# EAGLE library part 4840417 (library ampex)
MM1200 - Search-To-Cue / Tachometer
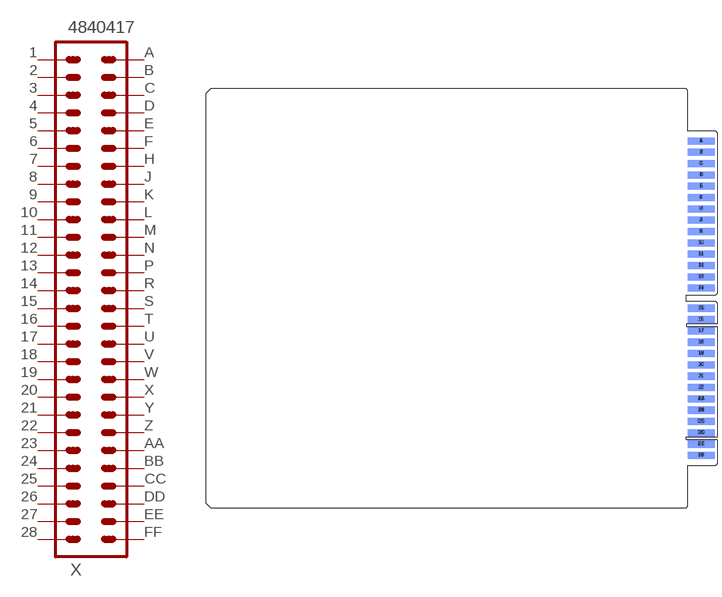
[diagram p17: symbol with the pads of 4840417; footprint 4840417]

Designator prefix X

## 4840417  [4840417]
1  1  pas
2  2  pas
3  3  pas
4  4  pas
5  5  pas
6  6  pas
7  7  pas
8  8  pas
9  9  pas
10  10  pas
11  11  pas
12  12  pas
13  13  pas
14  14  pas
15  15  pas
16  16  pas
17  17  pas
18  18  pas
19  19  pas
20  20  pas
21  21  pas
22  22  pas
23  23  pas
24  24  pas
25  25  pas
26  26  pas
27  27  pas
28  28  pas
A  A  pas
AA  AA  pas
B  B  pas
BB  BB  pas
C  C  pas
CC  CC  pas
D  D  pas
DD  DD  pas
E  E  pas
EE  EE  pas
F  F  pas
FF  FF  pas
H  H  pas
J  J  pas
K  K  pas
L  L  pas
M  M  pas
N  N  pas
P  P  pas
R  R  pas
S  S  pas
T  T  pas
U  U  pas
V  V  pas
W  W  pas
X  X  pas
Y  Y  pas
Z  Z  pas

## Footprint 4840417 (pad centres in mm)
MM1200 - SEARCH TO CUE / TACH CARD
smd 9.525 x 2.477 bottom: 1 -5.588,55.023; 2 -5.588,51.06; 3 -5.588,47.098; 4 -5.588,43.136; 5 -5.588,39.173; 6 -5.588,35.211; 7 -5.588,31.248; 8 -5.588,27.286; 9 -5.588,23.324; 10 -5.588,19.361; 11 -5.588,15.399; 12 -5.588,11.436; 13 -5.588,7.474; 14 -5.588,3.512; 15 -5.588,-3.512; 16 -5.588,-7.474; 17 -5.588,-11.436; 18 -5.588,-15.399; 19 -5.588,-19.361; 20 -5.588,-23.324; 21 -5.588,-27.286; 22 -5.588,-31.248; 23 -5.588,-35.211; 24 -5.588,-39.173; 25 -5.588,-43.136; 26 -5.588,-47.098; 27 -5.588,-51.06; 28 -5.588,-55.023
smd 9.525 x 2.477: A -5.588,55.023; AA -5.588,-35.211; B -5.588,51.06; BB -5.588,-39.173; C -5.588,47.098; CC -5.588,-43.136; D -5.588,43.136; DD -5.588,-47.098; E -5.588,39.173; EE -5.588,-51.06; F -5.588,35.211; FF -5.588,-55.023; H -5.588,31.248; J -5.588,27.286; K -5.588,23.324; L -5.588,19.361; M -5.588,15.399; N -5.588,11.436; P -5.588,7.474; R -5.588,3.512; S -5.588,-3.512; T -5.588,-7.474; U -5.588,-11.436; V -5.588,-15.399; W -5.588,-19.361; X -5.588,-23.324; Y -5.588,-27.286; Z -5.588,-31.248